# EAGLE library part RES-ARRAY (library Protofusion)
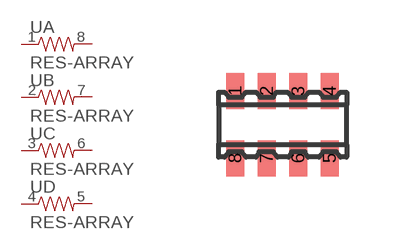
[diagram p1: symbol with the pads of 0603-ARV-4; footprint 0603-ARV-4]

Designator prefix -; gates A=RESISTOR B=RESISTOR C=RESISTOR D=RESISTOR

## RES-ARRAY  [0603-ARV-4]
1  A:1  pas
2  B:1  pas
3  C:1  pas
4  D:1  pas
5  D:2  pas
6  C:2  pas
7  B:2  pas
8  A:2  pas

## Footprint 0603-ARV-4 (pad centres in mm)
smd 0.457 x 0.902: 1 -1.181,0.845; 2 -0.394,0.845; 3 0.394,0.845; 4 1.181,0.845; 5 1.181,-0.845; 6 0.394,-0.845; 7 -0.394,-0.845; 8 -1.181,-0.845